# Altium footprint library kbd_training.PcbLib: 11 footprints
Each footprint in its own frame and in the unit in brackets; x right, y up, seen from the top. Pads: shape width x height; smd on the part's side, far side on the other; paste and mask are expansions set on the pad; w line width, h text height; cw(c..) or ccw(c..) is an arc to the next point about the centre after c.
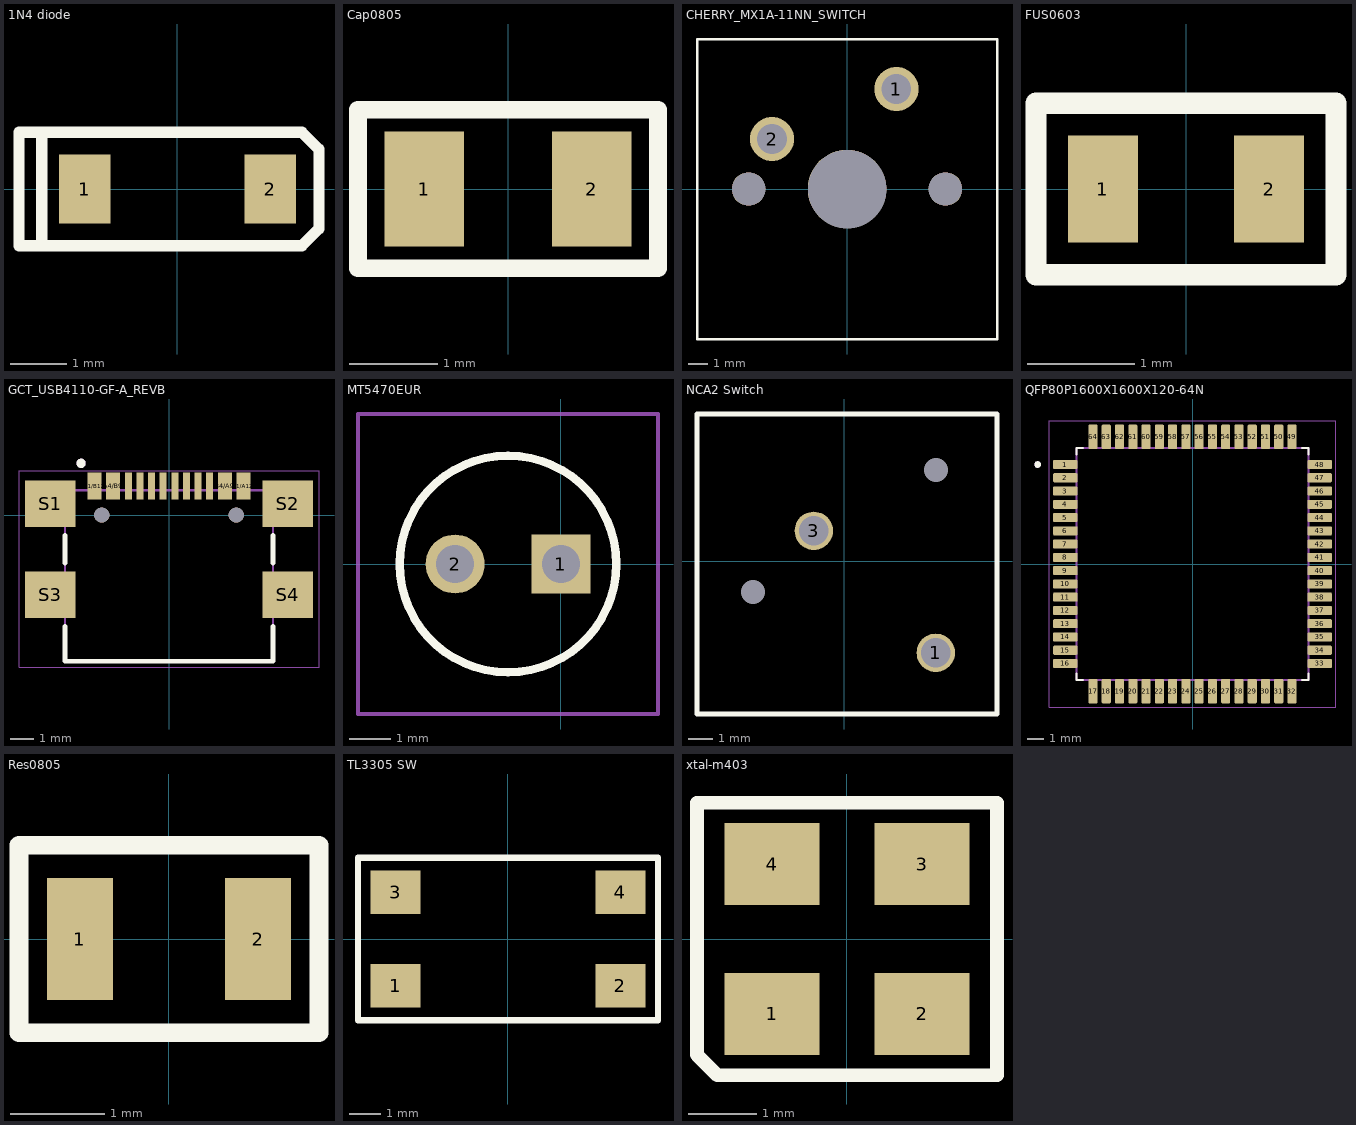
[diagram p0: the footprints below, top view; thin cyan lines are the x and y axes]

## 1N4 diode [mm]
pads (2):
  rect 0.91x1.22 smd: 1(-1.635,0) 2(1.635,0)
Top Overlay:
  lines w0.2: -2.4,-1 -2.4,1 ; -2.8,-1 2.2,-1 2.5,-0.7 2.5,0.7 2.2,1 -2.8,1 -2.8,-1
Top Designator:
  text ".Designator" at -7.768,-0.508 h1.52

## Cap0805 [mm]
pads (2):
  rect 0.9x1.3 smd: 1(-0.95,0) 2(0.95,0)
Top Overlay:
  lines w0.2: -1.7,-0.9 -1.7,0.9 1.7,0.9 1.7,-0.9 -1.7,-0.9
Top Designator:
  text ".Designator" at -7.618,-0.508 h1.52

## CHERRY_MX1A-11NN_SWITCH [mm]
pads (5):
  round 2.25 hole 1.5: 1(2.51,5.08) 2(-3.81,2.54)
  round 1.7 hole 1.7 unplated: ""(-5,0) ""(5,0)
  round 3.988 hole 3.988 unplated: ""(0,0)
Top Overlay:
  lines w0.127: -7.62,-7.62 -7.62,7.62 7.62,7.62 7.62,-7.62 -7.62,-7.62
Top Designator:
  text ".Designator" at -7.418,-4.308 h1.52

## FUS0603 [mm]
pads (2):
  rect 0.65x1 smd: 1(-0.775,0) 2(0.775,0)
Top Overlay:
  lines w0.2: -1.4,-0.8 -1.4,0.8 1.4,0.8 1.4,-0.8 -1.4,-0.8
Top Designator:
  text ".Designator" at -7.618,-0.508 h1.52

## GCT_USB4110-GF-A_REVB [mm]
pads (18):
  rect 0.6x1.15 smd paste+0: A1/B12(-3.2,1.25)
  rect 0.6x1.15 smd: A4/B9(-2.4,1.25) B1/A12(3.2,1.25) B4/A9(2.4,1.25)
  rect 0.3x1.15 smd: A5(-1.25,1.25) A6(-0.25,1.25) A7(0.25,1.25) A8(1.25,1.25) B5(1.75,1.25) B6(0.75,1.25) B7(-0.75,1.25) B8(-1.75,1.25)
  rect 2.18x2 smd: S1(-5.11,0.5) S2(5.11,0.5) S3(-5.11,-3.43) S4(5.11,-3.43)
  round 0.65 hole 0.65 unplated mask+0.06: ""(-2.89,0) ""(2.89,0)
Top Overlay:
  circle w0.2: c-3.78,2.23 r0.1
  lines w0.2: -4.47,-4.79 -4.47,-6.28 4.47,-6.28 4.47,-4.79 ; -4.47,-2.07 -4.47,-0.86 ; 4.47,-2.07 4.47,-0.86
Top Designator:
  text ".Designator" at -7.618,-2.57 h1.52
Mechanical 13:
  circle w0.2: c-3.78,2.23 r0.1
  lines w0.1: -4.47,-6.28 4.47,-6.28 4.47,1.07 -4.47,1.07 -4.47,-6.28
Mechanical 15:
  lines w0.05: -6.45,-6.53 -6.45,1.9 6.45,1.9 6.45,-6.53 -6.45,-6.53
3D body "step_temp.STEP": height 3.23, standoff -0.73, extent -5.65,-6.24 5.65,1.44

## MT5470EUR [mm]
pads (2):
  rect 1.416x1.416 hole 0.91: 1(0,0)
  round 1.416 hole 0.91: 2(-2.54,0)
Top Overlay:
  lines w0.2: -1.27,-2.6 ccw(c-1.27,0) -1.27,2.6 ccw(c-1.27,0) -1.27,-2.6
Top Designator:
  text ".Designator" at -8.818,4.292 h1.52
Mechanical 13:
  lines w0.1: -1.27,-2.6 ccw(c-1.27,0) -1.27,2.6 ccw(c-1.27,0) -1.27,-2.6
Mechanical 15:
  lines w0.1: -4.87,-3.6 -4.87,3.6 2.33,3.6 2.33,-3.6 -4.87,-3.6
3D body "MT5470E-UR.stp": height 8.65, standoff -5, extent -3.87,-2.6 1.33,2.6

## NCA2 Switch [mm]
pads (4):
  round 1.6 hole 1.22: 1(3.81,-3.81)
  round 0 hole 1: 2(-3.81,-1.27) 2(3.81,3.81)
  round 1.6 / inner round 1.45 / far side round 1.6 hole 1.22: 3(-1.27,1.27)
Top Overlay:
  lines w0.2: -6.14,-6.36 6.36,-6.36 6.36,6.14 -6.14,6.14 -6.14,-6.36
Top Designator:
  text ".Designator" at -7.508,-0.618 h1.52

## QFP80P1600X1600X120-64N [mm]
pads (64):
  rrect25% 1.47x0.55 smd: 1(-7.67,6) 2(-7.67,5.2) 3(-7.67,4.4) 4(-7.67,3.6) 5(-7.67,2.8) 6(-7.67,2) 7(-7.67,1.2) 8(-7.67,0.4) 9(-7.67,-0.4) 10(-7.67,-1.2) 11(-7.67,-2) 12(-7.67,-2.8) 13(-7.67,-3.6) 14(-7.67,-4.4) 15(-7.67,-5.2) 16(-7.67,-6) 33(7.67,-6) 34(7.67,-5.2) 35(7.67,-4.4) 36(7.67,-3.6) 37(7.67,-2.8) 38(7.67,-2) 39(7.67,-1.2) 40(7.67,-0.4) 41(7.67,0.4) 42(7.67,1.2) 43(7.67,2) 44(7.67,2.8) 45(7.67,3.6) 46(7.67,4.4) 47(7.67,5.2) 48(7.67,6)
  rrect25% 0.55x1.47 smd: 17(-6,-7.67) 18(-5.2,-7.67) 19(-4.4,-7.67) 20(-3.6,-7.67) 21(-2.8,-7.67) 22(-2,-7.67) 23(-1.2,-7.67) 24(-0.4,-7.67) 25(0.4,-7.67) 26(1.2,-7.67) 27(2,-7.67) 28(2.8,-7.67) 29(3.6,-7.67) 30(4.4,-7.67) 31(5.2,-7.67) 32(6,-7.67) 49(6,7.67) 50(5.2,7.67) 51(4.4,7.67) 52(3.6,7.67) 53(2.8,7.67) 54(2,7.67) 55(1.2,7.67) 56(0.4,7.67) 57(-0.4,7.67) 58(-1.2,7.67) 59(-2,7.67) 60(-2.8,7.67) 61(-3.6,7.67) 62(-4.4,7.67) 63(-5.2,7.67) 64(-6,7.67)
Top Overlay:
  circle w0.2: c-9.34,6 r0.1
  lines w0.127: -7,-6.595 -7,-7 -6.595,-7 ; -7,6.595 -7,7 -6.595,7 ; 6.595,-7 7,-7 7,-6.595 ; 6.595,7 7,7 7,6.595
Top Designator:
  text ".Designator" at -8.048,-0.508 h1.52
Mechanical 13:
  circle w0.2: c-9.34,6 r0.1
  lines w0.127: -7,-7 7,-7 7,7 -7,7 -7,-7
Mechanical 15:
  lines w0.05: -8.655,-8.655 8.655,-8.655 8.655,8.655 -8.655,8.655 -8.655,-8.655

## Res0805 [mm]
pads (2):
  rect 0.7x1.3 smd: 1(-0.95,0) 2(0.95,0)
Top Overlay:
  lines w0.2: -1.6,-1 -1.6,1 1.6,1 1.6,-1 -1.6,-1
Top Designator:
  text ".Designator" at -7.618,-0.508 h1.52

## TL3305 SW [mm]
pads (4):
  rect 1.6x1.4 smd: 1(-3.6,-1.5) 2(3.6,-1.5) 3(-3.6,1.5) 4(3.6,1.5)
Top Overlay:
  lines w0.2: -4.8,-2.6 -4.8,2.6 4.8,2.6 4.8,-2.6 -4.8,-2.6
Top Designator:
  text ".Designator" at -7.618,-0.508 h1.52

## xtal-m403 [mm]
pads (4):
  rect 1.4x1.2 smd: 1(-1.1,-1.1) 2(1.1,-1.1) 3(1.1,1.1) 4(-1.1,1.1)
Top Overlay:
  lines w0.2: -2.2,-1.7 -2.2,2 2.2,2 2.2,-2 -1.9,-2 -2.2,-1.7
Top Designator:
  text ".Designator" at -7.618,-0.508 h1.52